# EAGLE library part STM32F4 (library Other)
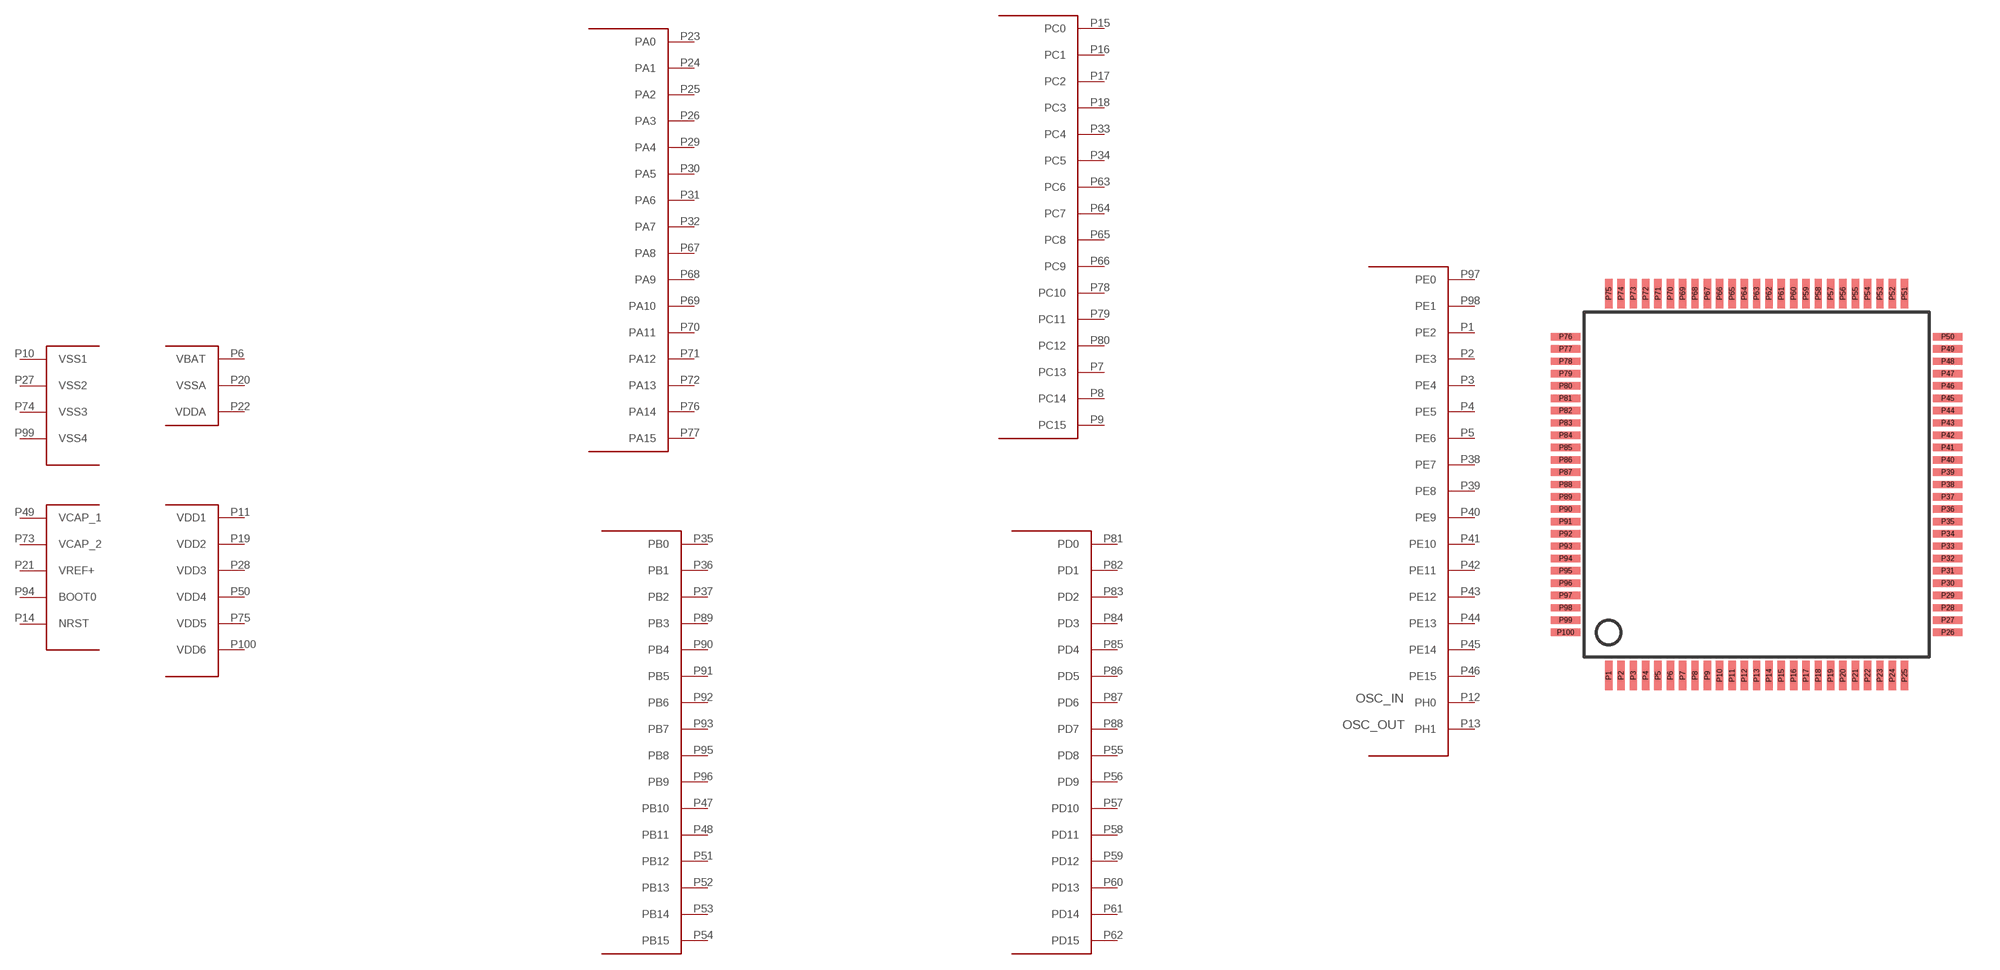
[diagram p12: symbol with the pads of LQFP100; footprint LQFP100]

Designator prefix -; gates G$1=STM32F4_A G$2=STM32F4_B G$3=STM32F4_C G$4=STM32F4_D G$5=STM32F4_EH G$6=STM32F4_PWR

## STM32F4  [LQFP100]
P1  G$5:PE2
P2  G$5:PE3
P3  G$5:PE4
P4  G$5:PE5
P5  G$5:PE6
P6  G$6:VBAT
P7  G$3:PC13
P8  G$3:PC14
P9  G$3:PC15
P10  G$6:VSS1
P11  G$6:VDD1
P12  G$5:PH0
P13  G$5:PH1
P14  G$6:NRST
P15  G$3:PC0
P16  G$3:PC1
P17  G$3:PC2
P18  G$3:PC3
P19  G$6:VDD2
P20  G$6:VSSA
P21  G$6:VREF+
P22  G$6:VDDA
P23  G$1:PA0
P24  G$1:PA1
P25  G$1:PA2
P26  G$1:PA3
P27  G$6:VSS2
P28  G$6:VDD3
P29  G$1:PA4
P30  G$1:PA5
P31  G$1:PA6
P32  G$1:PA7
P33  G$3:PC4
P34  G$3:PC5
P35  G$2:PB0
P36  G$2:PB1
P37  G$2:PB2
P38  G$5:PE7
P39  G$5:PE8
P40  G$5:PE9
P41  G$5:PE10
P42  G$5:PE11
P43  G$5:PE12
P44  G$5:PE13
P45  G$5:PE14
P46  G$5:PE15
P47  G$2:PB10
P48  G$2:PB11
P49  G$6:VCAP_1
P50  G$6:VDD4
P51  G$2:PB12
P52  G$2:PB13
P53  G$2:PB14
P54  G$2:PB15
P55  G$4:PD8
P56  G$4:PD9
P57  G$4:PD10
P58  G$4:PD11
P59  G$4:PD12
P60  G$4:PD13
P61  G$4:PD14
P62  G$4:PD15
P63  G$3:PC6
P64  G$3:PC7
P65  G$3:PC8
P66  G$3:PC9
P67  G$1:PA8
P68  G$1:PA9
P69  G$1:PA10
P70  G$1:PA11
P71  G$1:PA12
P72  G$1:PA13
P73  G$6:VCAP_2
P74  G$6:VSS3
P75  G$6:VDD5
P76  G$1:PA14
P77  G$1:PA15
P78  G$3:PC10
P79  G$3:PC11
P80  G$3:PC12
P81  G$4:PD0
P82  G$4:PD1
P83  G$4:PD2
P84  G$4:PD3
P85  G$4:PD4
P86  G$4:PD5
P87  G$4:PD6
P88  G$4:PD7
P89  G$2:PB3
P90  G$2:PB4
P91  G$2:PB5
P92  G$2:PB6
P93  G$2:PB7
P94  G$6:BOOT0
P95  G$2:PB8
P96  G$2:PB9
P97  G$5:PE0
P98  G$5:PE1
P99  G$6:VSS4
P100  G$6:VDD6

## Footprint LQFP100 (pad centres in mm)
smd 0.3 x 1.2: P1 -6,-7.75; P2 -5.5,-7.75; P3 -5,-7.75; P4 -4.5,-7.75; P5 -4,-7.75; P6 -3.5,-7.75; P7 -3,-7.75; P8 -2.5,-7.75; P9 -2,-7.75; P10 -1.5,-7.75; P11 -1,-7.75; P12 -0.5,-7.75; P13 0,-7.75; P14 0.5,-7.75; P15 1,-7.75; P16 1.5,-7.75; P17 2,-7.75; P18 2.5,-7.75; P19 3,-7.75; P20 3.5,-7.75; P21 4,-7.75; P22 4.5,-7.75; P23 5,-7.75; P24 5.5,-7.75; P25 6,-7.75; P51 6,7.75; P52 5.5,7.75; P53 5,7.75; P54 4.5,7.75; P55 4,7.75; P56 3.5,7.75; P57 3,7.75; P58 2.5,7.75; P59 2,7.75; P60 1.5,7.75; P61 1,7.75; P62 0.5,7.75; P63 0,7.75; P64 -0.5,7.75; P65 -1,7.75; P66 -1.5,7.75; P67 -2,7.75; P68 -2.5,7.75; P69 -3,7.75; P70 -3.5,7.75; P71 -4,7.75; P72 -4.5,7.75; P73 -5,7.75; P74 -5.5,7.75; P75 -6,7.75
smd 1.2 x 0.3: P26 7.75,-6; P27 7.75,-5.5; P28 7.75,-5; P29 7.75,-4.5; P30 7.75,-4; P31 7.75,-3.5; P32 7.75,-3; P33 7.75,-2.5; P34 7.75,-2; P35 7.75,-1.5; P36 7.75,-1; P37 7.75,-0.5; P38 7.75,0; P39 7.75,0.5; P40 7.75,1; P41 7.75,1.5; P42 7.75,2; P43 7.75,2.5; P44 7.75,3; P45 7.75,3.5; P46 7.75,4; P47 7.75,4.5; P48 7.75,5; P49 7.75,5.5; P50 7.75,6; P76 -7.75,6; P77 -7.75,5.5; P78 -7.75,5; P79 -7.75,4.5; P80 -7.75,4; P81 -7.75,3.5; P82 -7.75,3; P83 -7.75,2.5; P84 -7.75,2; P85 -7.75,1.5; P86 -7.75,1; P87 -7.75,0.5; P88 -7.75,0; P89 -7.75,-0.5; P90 -7.75,-1; P91 -7.75,-1.5; P92 -7.75,-2; P93 -7.75,-2.5; P94 -7.75,-3; P95 -7.75,-3.5; P96 -7.75,-4; P97 -7.75,-4.5; P98 -7.75,-5; P99 -7.75,-5.5; P100 -7.75,-6